# Altium footprint library SimpleHeaders.PcbLib: 50 footprints (part 3 of 4)
Each footprint in its own frame and in the unit in brackets; x right, y up, seen from the top. Pads: shape width x height; smd on the part's side, far side on the other; paste and mask are expansions set on the pad; w line width, h text height; cw(c..) or ccw(c..) is an arc to the next point about the centre after c.
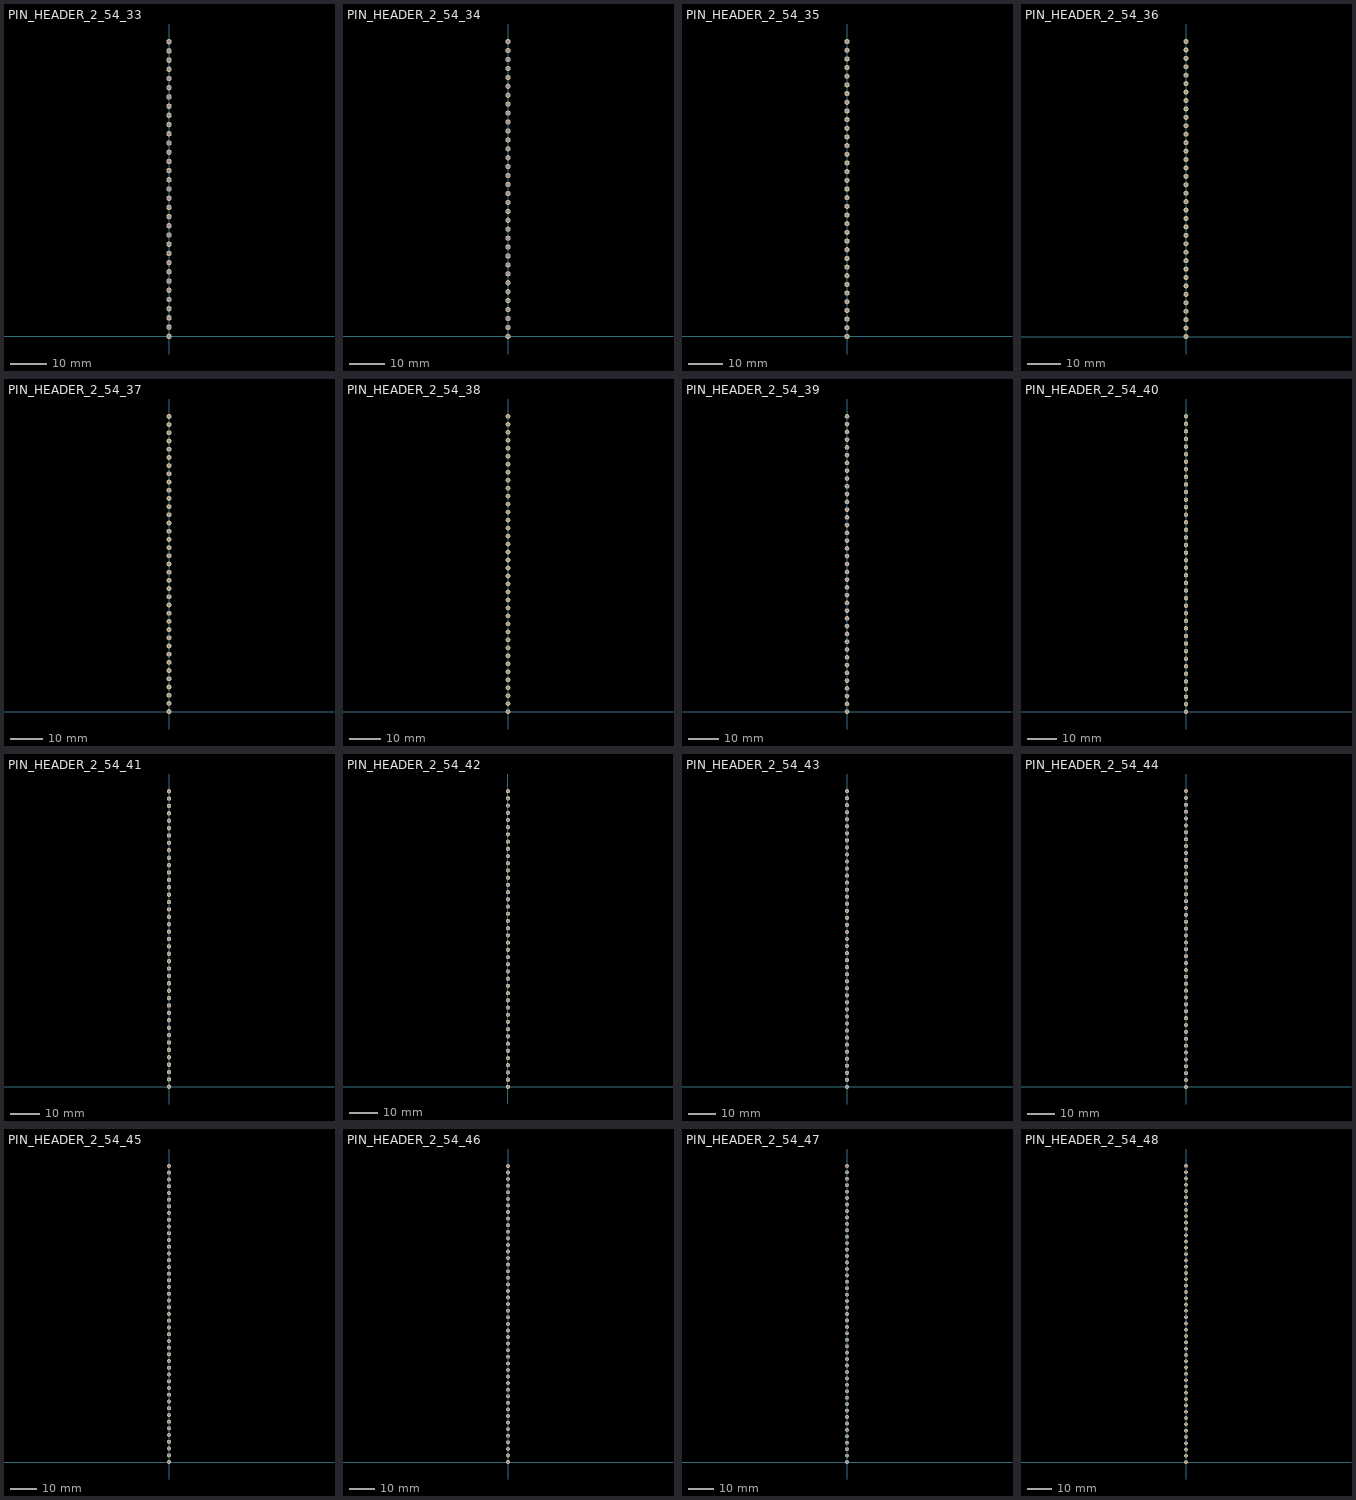
[diagram p2: the footprints below, top view; thin cyan lines are the x and y axes]

## PIN_HEADER_2_54_33 [mm]
pads (33):
  round 1.5 hole 1: 1(0,0) 2(0,2.54) 3(0,5.08) 4(0,7.62) 5(0,10.16) 6(0,12.7) 7(0,15.24) 8(0,17.78) 9(0,20.32) 10(0,22.86) 11(0,25.4) 12(0,27.94) 13(0,30.48) 14(0,33.02) 15(0,35.56) 16(0,38.1) 17(0,40.64) 18(0,43.18) 19(0,45.72) 20(0,48.26) 21(0,50.8) 22(0,53.34) 23(0,55.88) 24(0,58.42) 25(0,60.96) 26(0,63.5) 27(0,66.04) 28(0,68.58) 29(0,71.12) 30(0,73.66) 31(0,76.2) 32(0,78.74) 33(0,81.28)

## PIN_HEADER_2_54_34 [mm]
pads (34):
  round 1.5 hole 1: 1(0,0) 2(0,2.54) 3(0,5.08) 4(0,7.62) 5(0,10.16) 6(0,12.7) 7(0,15.24) 8(0,17.78) 9(0,20.32) 10(0,22.86) 11(0,25.4) 12(0,27.94) 13(0,30.48) 14(0,33.02) 15(0,35.56) 16(0,38.1) 17(0,40.64) 18(0,43.18) 19(0,45.72) 20(0,48.26) 21(0,50.8) 22(0,53.34) 23(0,55.88) 24(0,58.42) 25(0,60.96) 26(0,63.5) 27(0,66.04) 28(0,68.58) 29(0,71.12) 30(0,73.66) 31(0,76.2) 32(0,78.74) 33(0,81.28) 34(0,83.82)

## PIN_HEADER_2_54_35 [mm]
pads (35):
  round 1.5 hole 1: 1(0,0) 2(0,2.54) 3(0,5.08) 4(0,7.62) 5(0,10.16) 6(0,12.7) 7(0,15.24) 8(0,17.78) 9(0,20.32) 10(0,22.86) 11(0,25.4) 12(0,27.94) 13(0,30.48) 14(0,33.02) 15(0,35.56) 16(0,38.1) 17(0,40.64) 18(0,43.18) 19(0,45.72) 20(0,48.26) 21(0,50.8) 22(0,53.34) 23(0,55.88) 24(0,58.42) 25(0,60.96) 26(0,63.5) 27(0,66.04) 28(0,68.58) 29(0,71.12) 30(0,73.66) 31(0,76.2) 32(0,78.74) 33(0,81.28) 34(0,83.82) 35(0,86.36)

## PIN_HEADER_2_54_36 [mm]
pads (36):
  round 1.5 hole 1: 1(0,0) 2(0,2.54) 3(0,5.08) 4(0,7.62) 5(0,10.16) 6(0,12.7) 7(0,15.24) 8(0,17.78) 9(0,20.32) 10(0,22.86) 11(0,25.4) 12(0,27.94) 13(0,30.48) 14(0,33.02) 15(0,35.56) 16(0,38.1) 17(0,40.64) 18(0,43.18) 19(0,45.72) 20(0,48.26) 21(0,50.8) 22(0,53.34) 23(0,55.88) 24(0,58.42) 25(0,60.96) 26(0,63.5) 27(0,66.04) 28(0,68.58) 29(0,71.12) 30(0,73.66) 31(0,76.2) 32(0,78.74) 33(0,81.28) 34(0,83.82) 35(0,86.36) 36(0,88.9)

## PIN_HEADER_2_54_37 [mm]
pads (37):
  round 1.5 hole 1: 1(0,0) 2(0,2.54) 3(0,5.08) 4(0,7.62) 5(0,10.16) 6(0,12.7) 7(0,15.24) 8(0,17.78) 9(0,20.32) 10(0,22.86) 11(0,25.4) 12(0,27.94) 13(0,30.48) 14(0,33.02) 15(0,35.56) 16(0,38.1) 17(0,40.64) 18(0,43.18) 19(0,45.72) 20(0,48.26) 21(0,50.8) 22(0,53.34) 23(0,55.88) 24(0,58.42) 25(0,60.96) 26(0,63.5) 27(0,66.04) 28(0,68.58) 29(0,71.12) 30(0,73.66) 31(0,76.2) 32(0,78.74) 33(0,81.28) 34(0,83.82) 35(0,86.36) 36(0,88.9) 37(0,91.44)

## PIN_HEADER_2_54_38 [mm]
pads (38):
  round 1.5 hole 1: 1(0,0) 2(0,2.54) 3(0,5.08) 4(0,7.62) 5(0,10.16) 6(0,12.7) 7(0,15.24) 8(0,17.78) 9(0,20.32) 10(0,22.86) 11(0,25.4) 12(0,27.94) 13(0,30.48) 14(0,33.02) 15(0,35.56) 16(0,38.1) 17(0,40.64) 18(0,43.18) 19(0,45.72) 20(0,48.26) 21(0,50.8) 22(0,53.34) 23(0,55.88) 24(0,58.42) 25(0,60.96) 26(0,63.5) 27(0,66.04) 28(0,68.58) 29(0,71.12) 30(0,73.66) 31(0,76.2) 32(0,78.74) 33(0,81.28) 34(0,83.82) 35(0,86.36) 36(0,88.9) 37(0,91.44) 38(0,93.98)

## PIN_HEADER_2_54_39 [mm]
pads (39):
  round 1.5 hole 1: 1(0,0) 2(0,2.54) 3(0,5.08) 4(0,7.62) 5(0,10.16) 6(0,12.7) 7(0,15.24) 8(0,17.78) 9(0,20.32) 10(0,22.86) 11(0,25.4) 12(0,27.94) 13(0,30.48) 14(0,33.02) 15(0,35.56) 16(0,38.1) 17(0,40.64) 18(0,43.18) 19(0,45.72) 20(0,48.26) 21(0,50.8) 22(0,53.34) 23(0,55.88) 24(0,58.42) 25(0,60.96) 26(0,63.5) 27(0,66.04) 28(0,68.58) 29(0,71.12) 30(0,73.66) 31(0,76.2) 32(0,78.74) 33(0,81.28) 34(0,83.82) 35(0,86.36) 36(0,88.9) 37(0,91.44) 38(0,93.98) 39(0,96.52)

## PIN_HEADER_2_54_40 [mm]
pads (40):
  round 1.5 hole 1: 1(0,0) 2(0,2.54) 3(0,5.08) 4(0,7.62) 5(0,10.16) 6(0,12.7) 7(0,15.24) 8(0,17.78) 9(0,20.32) 10(0,22.86) 11(0,25.4) 12(0,27.94) 13(0,30.48) 14(0,33.02) 15(0,35.56) 16(0,38.1) 17(0,40.64) 18(0,43.18) 19(0,45.72) 20(0,48.26) 21(0,50.8) 22(0,53.34) 23(0,55.88) 24(0,58.42) 25(0,60.96) 26(0,63.5) 27(0,66.04) 28(0,68.58) 29(0,71.12) 30(0,73.66) 31(0,76.2) 32(0,78.74) 33(0,81.28) 34(0,83.82) 35(0,86.36) 36(0,88.9) 37(0,91.44) 38(0,93.98) 39(0,96.52) 40(0,99.06)

## PIN_HEADER_2_54_41 [mm]
pads (41):
  round 1.5 hole 1: 1(0,0) 2(0,2.54) 3(0,5.08) 4(0,7.62) 5(0,10.16) 6(0,12.7) 7(0,15.24) 8(0,17.78) 9(0,20.32) 10(0,22.86) 11(0,25.4) 12(0,27.94) 13(0,30.48) 14(0,33.02) 15(0,35.56) 16(0,38.1) 17(0,40.64) 18(0,43.18) 19(0,45.72) 20(0,48.26) 21(0,50.8) 22(0,53.34) 23(0,55.88) 24(0,58.42) 25(0,60.96) 26(0,63.5) 27(0,66.04) 28(0,68.58) 29(0,71.12) 30(0,73.66) 31(0,76.2) 32(0,78.74) 33(0,81.28) 34(0,83.82) 35(0,86.36) 36(0,88.9) 37(0,91.44) 38(0,93.98) 39(0,96.52) 40(0,99.06) 41(0,101.6)

## PIN_HEADER_2_54_42 [mm]
pads (42):
  round 1.5 hole 1: 1(0,0) 2(0,2.54) 3(0,5.08) 4(0,7.62) 5(0,10.16) 6(0,12.7) 7(0,15.24) 8(0,17.78) 9(0,20.32) 10(0,22.86) 11(0,25.4) 12(0,27.94) 13(0,30.48) 14(0,33.02) 15(0,35.56) 16(0,38.1) 17(0,40.64) 18(0,43.18) 19(0,45.72) 20(0,48.26) 21(0,50.8) 22(0,53.34) 23(0,55.88) 24(0,58.42) 25(0,60.96) 26(0,63.5) 27(0,66.04) 28(0,68.58) 29(0,71.12) 30(0,73.66) 31(0,76.2) 32(0,78.74) 33(0,81.28) 34(0,83.82) 35(0,86.36) 36(0,88.9) 37(0,91.44) 38(0,93.98) 39(0,96.52) 40(0,99.06) 41(0,101.6) 42(0,104.14)

## PIN_HEADER_2_54_43 [mm]
pads (43):
  round 1.5 hole 1: 1(0,0) 2(0,2.54) 3(0,5.08) 4(0,7.62) 5(0,10.16) 6(0,12.7) 7(0,15.24) 8(0,17.78) 9(0,20.32) 10(0,22.86) 11(0,25.4) 12(0,27.94) 13(0,30.48) 14(0,33.02) 15(0,35.56) 16(0,38.1) 17(0,40.64) 18(0,43.18) 19(0,45.72) 20(0,48.26) 21(0,50.8) 22(0,53.34) 23(0,55.88) 24(0,58.42) 25(0,60.96) 26(0,63.5) 27(0,66.04) 28(0,68.58) 29(0,71.12) 30(0,73.66) 31(0,76.2) 32(0,78.74) 33(0,81.28) 34(0,83.82) 35(0,86.36) 36(0,88.9) 37(0,91.44) 38(0,93.98) 39(0,96.52) 40(0,99.06) 41(0,101.6) 42(0,104.14) 43(0,106.68)

## PIN_HEADER_2_54_44 [mm]
pads (44):
  round 1.5 hole 1: 1(0,0) 2(0,2.54) 3(0,5.08) 4(0,7.62) 5(0,10.16) 6(0,12.7) 7(0,15.24) 8(0,17.78) 9(0,20.32) 10(0,22.86) 11(0,25.4) 12(0,27.94) 13(0,30.48) 14(0,33.02) 15(0,35.56) 16(0,38.1) 17(0,40.64) 18(0,43.18) 19(0,45.72) 20(0,48.26) 21(0,50.8) 22(0,53.34) 23(0,55.88) 24(0,58.42) 25(0,60.96) 26(0,63.5) 27(0,66.04) 28(0,68.58) 29(0,71.12) 30(0,73.66) 31(0,76.2) 32(0,78.74) 33(0,81.28) 34(0,83.82) 35(0,86.36) 36(0,88.9) 37(0,91.44) 38(0,93.98) 39(0,96.52) 40(0,99.06) 41(0,101.6) 42(0,104.14) 43(0,106.68) 44(0,109.22)

## PIN_HEADER_2_54_45 [mm]
pads (45):
  round 1.5 hole 1: 1(0,0) 2(0,2.54) 3(0,5.08) 4(0,7.62) 5(0,10.16) 6(0,12.7) 7(0,15.24) 8(0,17.78) 9(0,20.32) 10(0,22.86) 11(0,25.4) 12(0,27.94) 13(0,30.48) 14(0,33.02) 15(0,35.56) 16(0,38.1) 17(0,40.64) 18(0,43.18) 19(0,45.72) 20(0,48.26) 21(0,50.8) 22(0,53.34) 23(0,55.88) 24(0,58.42) 25(0,60.96) 26(0,63.5) 27(0,66.04) 28(0,68.58) 29(0,71.12) 30(0,73.66) 31(0,76.2) 32(0,78.74) 33(0,81.28) 34(0,83.82) 35(0,86.36) 36(0,88.9) 37(0,91.44) 38(0,93.98) 39(0,96.52) 40(0,99.06) 41(0,101.6) 42(0,104.14) 43(0,106.68) 44(0,109.22) 45(0,111.76)

## PIN_HEADER_2_54_46 [mm]
pads (46):
  round 1.5 hole 1: 1(0,0) 2(0,2.54) 3(0,5.08) 4(0,7.62) 5(0,10.16) 6(0,12.7) 7(0,15.24) 8(0,17.78) 9(0,20.32) 10(0,22.86) 11(0,25.4) 12(0,27.94) 13(0,30.48) 14(0,33.02) 15(0,35.56) 16(0,38.1) 17(0,40.64) 18(0,43.18) 19(0,45.72) 20(0,48.26) 21(0,50.8) 22(0,53.34) 23(0,55.88) 24(0,58.42) 25(0,60.96) 26(0,63.5) 27(0,66.04) 28(0,68.58) 29(0,71.12) 30(0,73.66) 31(0,76.2) 32(0,78.74) 33(0,81.28) 34(0,83.82) 35(0,86.36) 36(0,88.9) 37(0,91.44) 38(0,93.98) 39(0,96.52) 40(0,99.06) 41(0,101.6) 42(0,104.14) 43(0,106.68) 44(0,109.22) 45(0,111.76) 46(0,114.3)

## PIN_HEADER_2_54_47 [mm]
pads (47):
  round 1.5 hole 1: 1(0,0) 2(0,2.54) 3(0,5.08) 4(0,7.62) 5(0,10.16) 6(0,12.7) 7(0,15.24) 8(0,17.78) 9(0,20.32) 10(0,22.86) 11(0,25.4) 12(0,27.94) 13(0,30.48) 14(0,33.02) 15(0,35.56) 16(0,38.1) 17(0,40.64) 18(0,43.18) 19(0,45.72) 20(0,48.26) 21(0,50.8) 22(0,53.34) 23(0,55.88) 24(0,58.42) 25(0,60.96) 26(0,63.5) 27(0,66.04) 28(0,68.58) 29(0,71.12) 30(0,73.66) 31(0,76.2) 32(0,78.74) 33(0,81.28) 34(0,83.82) 35(0,86.36) 36(0,88.9) 37(0,91.44) 38(0,93.98) 39(0,96.52) 40(0,99.06) 41(0,101.6) 42(0,104.14) 43(0,106.68) 44(0,109.22) 45(0,111.76) 46(0,114.3) 47(0,116.84)

## PIN_HEADER_2_54_48 [mm]
pads (48):
  round 1.5 hole 1: 1(0,0) 2(0,2.54) 3(0,5.08) 4(0,7.62) 5(0,10.16) 6(0,12.7) 7(0,15.24) 8(0,17.78) 9(0,20.32) 10(0,22.86) 11(0,25.4) 12(0,27.94) 13(0,30.48) 14(0,33.02) 15(0,35.56) 16(0,38.1) 17(0,40.64) 18(0,43.18) 19(0,45.72) 20(0,48.26) 21(0,50.8) 22(0,53.34) 23(0,55.88) 24(0,58.42) 25(0,60.96) 26(0,63.5) 27(0,66.04) 28(0,68.58) 29(0,71.12) 30(0,73.66) 31(0,76.2) 32(0,78.74) 33(0,81.28) 34(0,83.82) 35(0,86.36) 36(0,88.9) 37(0,91.44) 38(0,93.98) 39(0,96.52) 40(0,99.06) 41(0,101.6) 42(0,104.14) 43(0,106.68) 44(0,109.22) 45(0,111.76) 46(0,114.3) 47(0,116.84) 48(0,119.38)